# EAGLE library part DG406DYZ (library Intersil_By_element14_Batch_1)
Single 16-Channel/Differential 8-Channel CMOS Analog Multiplexers
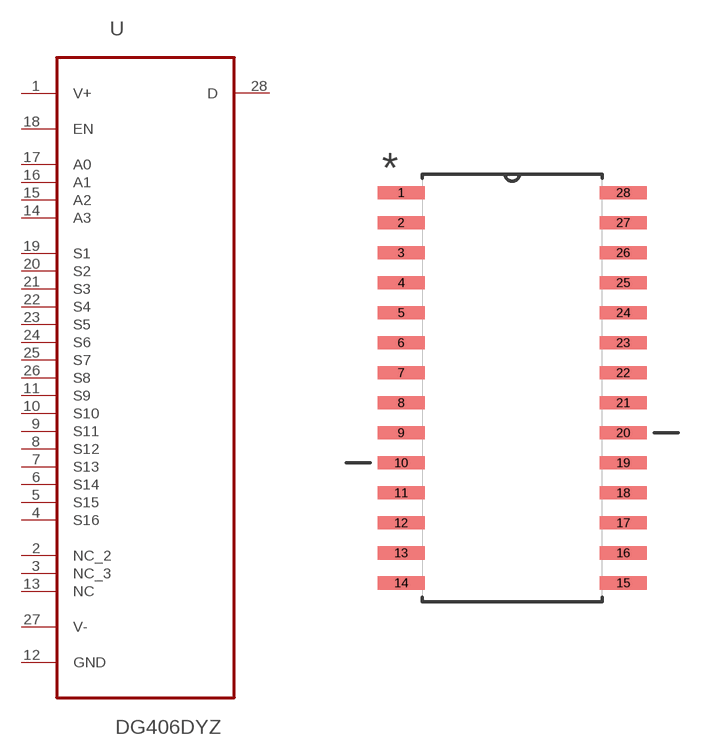
[diagram p29: symbol with the pads of SOIC127P1032X265-28N; footprint SOIC127P1032X265-28N]

Designator prefix U

## DG406DYZ (MPN: DG406DYZ; OC_FARNELL: 9663819; OC_NEWARK: 61J5525; PACKAGE: 28-SOIC; SUPPLIER: INTERSIL)  [SOIC127P1032X265-28N]
1  V+  pwr
2  NC_2  nc
3  NC_3  nc
4  S16  in
5  S15  in
6  S14  in
7  S13  in
8  S12  in
9  S11  in
10  S10  in
11  S9  in
12  GND  pas
13  NC  nc
14  A3  in
15  A2  in
16  A1  in
17  A0  in
18  EN  in
19  S1  in
20  S2  in
21  S3  in
22  S4  in
23  S5  in
24  S6  in
25  S7  in
26  S8  in
27  V-  pwr
28  D  out

## Footprint SOIC127P1032X265-28N (pad centres in mm)
smd 1.981 x 0.559: 1 -4.699,8.255; 2 -4.699,6.985; 3 -4.699,5.715; 4 -4.699,4.445; 5 -4.699,3.175; 6 -4.699,1.905; 7 -4.699,0.635; 8 -4.699,-0.635; 9 -4.699,-1.905; 10 -4.699,-3.175; 11 -4.699,-4.445; 12 -4.699,-5.715; 13 -4.699,-6.985; 14 -4.699,-8.255; 15 4.699,-8.255; 16 4.699,-6.985; 17 4.699,-5.715; 18 4.699,-4.445; 19 4.699,-3.175; 20 4.699,-1.905; 21 4.699,-0.635; 22 4.699,0.635; 23 4.699,1.905; 24 4.699,3.175; 25 4.699,4.445; 26 4.699,5.715; 27 4.699,6.985; 28 4.699,8.255